# Altium footprint library 载板20220818.PcbLib: 53 footprints (part 3 of 4)
Each footprint in its own frame and in the unit in brackets; x right, y up, seen from the top. Pads: shape width x height; smd on the part's side, far side on the other; paste and mask are expansions set on the pad; w line width, h text height; cw(c..) or ccw(c..) is an arc to the next point about the centre after c.
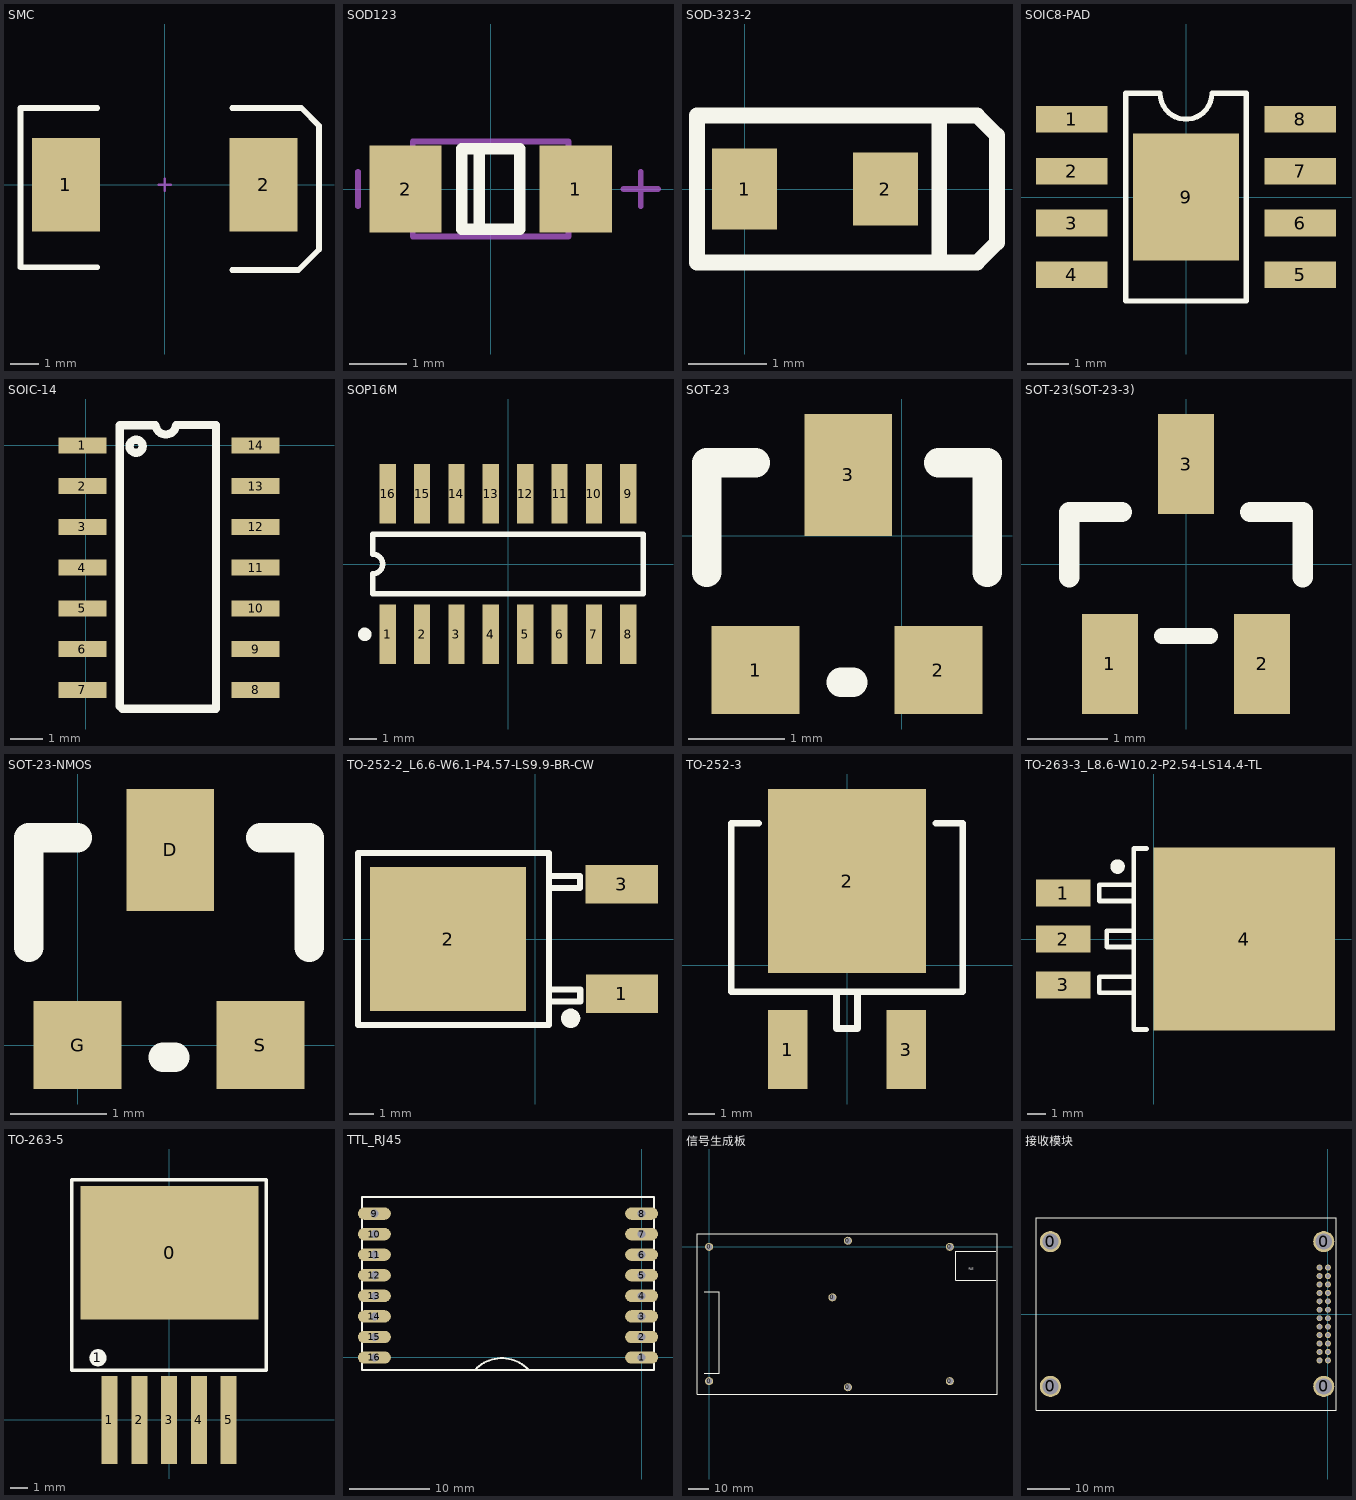
[diagram p2: the footprints below, top view; thin cyan lines are the x and y axes]

## SMC [mm] "DO-214-AB/SMC; 2 C-Bend Leads; Body 7.9 x 5.9 mm, inc. leads (LxW)"
height 2.65
pads (2):
  rect 2.4x3.3 smd: 1(-3.475,0) 2(3.475,0)
Top Overlay:
  lines w0.2: -2.375,-2.9 -5.075,-2.9 -5.075,2.7 -2.375,2.7 ; 2.375,-3 4.7,-3 5.425,-2.275 5.425,2.073 4.804,2.7 2.375,2.7
Mechanical 1:
  lines w0.1: -0.2,0 0.2,0 ; 0,-0.2 0,0.2
3D body "User Library-DO-214AB(SMC).step": height 2.57, standoff -0.07, extent -4.318,-3.15 3.81,3.15

## SOD123 [mm]
height 4.7
pads (2):
  rect 1.25x1.5 smd: 1(1.475,0) 2(-1.475,0)
Top Overlay:
  lines w0.2: -0.2,-0.7 -0.2,0.7 ; -0.5,-0.7 0.5,-0.7 0.5,0.7 -0.5,0.7 -0.5,-0.7
Mechanical 13:
  lines w0.1: -1.35,-0.825 -1.35,0.825 1.35,0.825 1.35,-0.825 -1.35,-0.825
Mechanical 15:
  lines w0.1: -2.3,-0.3 -2.3,0.3 ; 2.3,0 2.9,0 ; 2.6,-0.3 2.6,0.3
3D body "SOD123.STEP": height 1.35, standoff 0, extent -1.85,-0.775 1.85,0.775

## SOD-323-2 [mm]
pads (2):
  rect 0.83x1.03 smd: 1(0,0)
  rect 0.83x0.93 smd: 2(1.8,0)
Top Overlay:
  lines w0.2: 2.489,-0.94 -0.61,-0.94 -0.61,0.94 2.489,0.94 ; 2.489,-0.94 2.972,-0.94 3.226,-0.686 3.226,0.686 2.972,0.94 2.489,0.94 ; 2.489,-0.94 2.489,0.94
3D body: height 3, standoff 0, extent -0.584,-0.711 2.413,0.711

## SOIC8-PAD [mm]
height 1.25
pads (9):
  rect 1.75x0.65 smd: 1(-2.794,1.905) 2(-2.794,0.635) 3(-2.794,-0.635) 4(-2.794,-1.905) 5(2.794,-1.905) 6(2.794,-0.635) 7(2.794,0.635) 8(2.794,1.905)
  rect 2.6x3.1 smd: 9(0,0)
Top Overlay:
  lines w0.127: -1.475,2.54 -1.475,-2.54 1.473,-2.54 ; -1.473,2.54 -0.635,2.54 ccw(c0,2.54) 0.635,2.54 1.473,2.54 ; 1.475,-2.54 1.475,2.54

## SOIC-14 [mm]
height 1
pads (14):
  rect 1.5x0.5 smd: 1(-0.1,0) 2(-0.1,-1.27) 3(-0.1,-2.54) 4(-0.1,-3.81) 5(-0.1,-5.08) 6(-0.1,-6.35) 7(-0.1,-7.62) 8(5.3,-7.62) 9(5.3,-6.35) 10(5.3,-5.08) 11(5.3,-3.81) 12(5.3,-2.54) 13(5.3,-1.27) 14(5.3,0)
Top Overlay:
  circle w0.254: c1.575,-0.025 r0.205
  lines w0.254: 2.083,0.627 1.067,0.627 1.067,-1.759 1.067,-6.14 1.067,-8.128 1.143,-8.204 4.064,-8.204 4.064,0.635 3.15,0.635 2.845,0.635 ; 2.184,0.627 ccw(c2.502,0.66) 2.819,0.627

## SOP16M [mm]
pads (16):
  rect 0.6x2.2 smd: 1(-4.445,-2.6) 2(-3.175,-2.6) 3(-1.905,-2.6) 4(-0.635,-2.6) 5(0.635,-2.6) 6(1.905,-2.6) 7(3.175,-2.6) 8(4.445,-2.6) 9(4.445,2.6) 10(3.175,2.6) 11(1.905,2.6) 12(0.635,2.6) 13(-0.635,2.6) 14(-1.905,2.6) 15(-3.175,2.6) 16(-4.445,2.6)
Top Overlay:
  circle w0.25: c-5.295,-2.6 r0.125
  lines w0.2: -5,-1.1 5,-1.1 5,1.1 -5,1.1 -5,0.367 cw(c-5,0) -5,-0.367 -5,-1.1

## SOT-23 [mil]
height 185.04
pads (3):
  rect 36x36 smd: 1(-60,-55) 2(15,-55)
  rect 36x50 smd: 3(-22,25)
Top Overlay:
  lines w12: -80,-15 -80,30 -60,30 ; -25,-60 -20,-60 ; 15,30 35,30 35,-15

## SOT-23(SOT-23-3) [mm]
pads (3):
  rect 0.7x1.25 smd: 1(-0.95,-1.25) 2(0.95,-1.25) 3(0,1.25)
Top Overlay:
  lines w0.2: -0.3,-0.9 0.3,-0.9
  lines w0.254: -1.46,-0.165 -1.46,0.65 -0.8,0.65 ; 1.46,-0.165 1.46,0.65 ; 0.8,0.65 1.46,0.65 ; 0.8,0.65 1.46,0.65 ; 0.8,0.65 1.46,0.65

## SOT-23-NMOS [mil]
pads (3):
  rect 36x50 smd: D(38,80)
  rect 36x36 smd: G(0,0) S(75,0)
Top Overlay:
  lines w12: -20,40 -20,85 0,85 ; 35,-5 40,-5 ; 75,85 95,85 95,40

## TO-252-2_L6.6-W6.1-P4.57-LS9.9-BR-CW [mm]
pads (3):
  rect 3x1.6 smd: 1(3.617,-2.285)
  rect 6.5x5.999 smd: 2(-3.617,0)
  rect 3.002x1.6 smd: 3(3.611,2.285)
Top Overlay:
  lines w0.254: 0.578,2.122 1.878,2.122 1.878,2.623 0.578,2.623 ; 0.582,-2.6 1.882,-2.6 1.882,-2.1 0.582,-2.1 ; -7.368,-3.573 0.582,-3.573 0.582,3.573 -7.368,3.573 -7.368,-3.573
  lines w0.4: 1.482,-3.099 ccw(c1.483,-3.299) 1.485,-3.099

## TO-252-3 [mm]
pads (3):
  rect 1.5x3 smd: 1(-2.25,-3.2) 3(2.25,-3.2)
  rect 6x7 smd: 2(0,3.2)
Top Overlay:
  lines w0.25: -3.353,5.4 -4.4,5.4 -4.4,-1 4.4,-1 4.4,5.4 3.378,5.4 ; -0.4,-1 -0.4,-2.4 0.4,-2.4 0.4,-1

## TO-263-3_L8.6-W10.2-P2.54-LS14.4-TL [mil]
pads (4):
  rect 118.5x59.5 smd: 1(-197,100) 2(-197,0) 3(-197,-100)
  rect 394.5x398.5 smd: 4(197,0)
Top Overlay:
  lines w10: -43.5,-117.3 -118.3,-117.3 -118.3,-81.9 -43.5,-81.9 ; -43.5,-17.3 -102.5,-17.3 -102.5,18.1 -43.5,18.1 ; -43.5,82.7 -118.3,82.7 -118.3,118.1 -43.5,118.1 ; -15.9,-196.9 -43.5,-196.9 -43.5,196.9 -15.9,196.9
  lines w15.7: -78.9,165.4 ccw(c-78.85,157.5) -78.8,165.4

## TO-263-5 [mm]
height 0.55
pads (7):
  rect 10.16x7.62 smd: 0(0.025,9.55)
  round 1 on Top Overlay: 1(-4.064,3.556)
  rect 0.914x5.03 smd: 1(-3.41,0) 2(-1.7,0) 3(0,0) 4(1.7,0) 5(3.4,0)
Top Overlay:
  lines w0.2: -5.563,2.845 -5.563,13.741 -2.485,13.741 2.485,13.741 5.563,13.741 5.563,2.845 -5.563,2.845

## TTL_RJ45 [mil]
pads (16):
  oval 160x60 hole 39.37: 1(0,0) 2(0,100) 3(0,200) 4(0,300) 5(0,400) 6(0,500) 7(0,600) 8(0,700) 9(-1300,700) 10(-1300,600) 11(-1300,500) 12(-1300,400) 13(-1300,300) 14(-1300,200) 15(-1300,100) 16(-1300,0)
Top Overlay:
  lines w10: -810,-60 cw(c-680,-180) -550,-60 ; -1360,-60 60,-60 60,780 -1320,780 -1360,780 -1360,-60

## 信号生成板 [mm]
pads (7):
  round 4 hole 3: 0(0,-67) 0(0,0) 0(61.5,-25.2) 0(69.2,-70) 0(69.2,3) 0(120,-67) 0(120,0)
Top Overlay:
  lines w0.254: -2.5,-63 5,-63 5,-22.5 -2.5,-22.5 ; 142.881,-16.698 122.881,-16.698 122.881,-2.198 142.881,-2.198 ; -6,-73.5 143.5,-73.5 143.5,6.5 -6,6.5 -6,-73.5
  text "RJ45" at 129.531,-11.548 h0.8
Bottom Overlay:

## 接收模块 [mm]
pads (28):
  round 5 hole 3.8: 0(-65.8,-17.15) 0(-65.8,17.15) 0(-1,-17.15) 0(-1,17.15)
  round 1.4 hole 1: 1(0,11) 2(-2,11) 3(0,9) 4(-2,9) 5(0,7) 6(-2,7) 7(0,5) 8(-2,5) 9(0,3) 10(-2,3) 11(0,1) 12(-2,1) 13(0,-1) 14(-2,-1) 15(0,-3) 16(-2,-3) 17(0,-5) 18(-2,-5) 19(0,-7) 20(-2,-7) 21(0,-9) 22(-2,-9) 23(0,-11) 24(-2,-11)
Top Overlay:
  lines w0.254: -69.2,-22.85 -69.2,22.85 1.9,22.85 1.9,-22.85 -69.2,-22.85